# Altium schematic symbol library ESP32.SchLib: 1 symbol
Pins are listed as number, name and electrical type; pins without a type are passive.

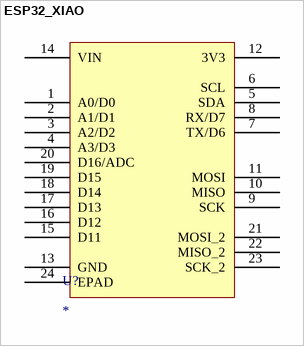
[diagram p0: symbol ESP32_XIAO]

## ESP32_XIAO
designator U?
footprint MOUDLE23P-SMD-2.54-21X17.8MM.kicad_mod.kicad_sym
pins: 1 A0/D0, 2 A1/D1, 3 A2/D2, 4 A3/D3, 5 SDA, 6 SCL, 7 TX/D6, 8 RX/D7, 9 SCK, 10 MISO, 11 MOSI, 12 3V3, 13 GND, 14 VIN, 15 D11, 16 D12, 17 D13, 18 D14, 19 D15, 20 D16/ADC, 21 MOSI_2, 22 MISO_2, 23 SCK_2, 24 EPAD